# Altium footprint library Pololu.PCBLIB: 2 footprints
Each footprint in its own frame and in the unit in brackets; x right, y up, seen from the top. Pads: shape width x height; smd on the part's side, far side on the other; paste and mask are expansions set on the pad; w line width, h text height; cw(c..) or ccw(c..) is an arc to the next point about the centre after c.
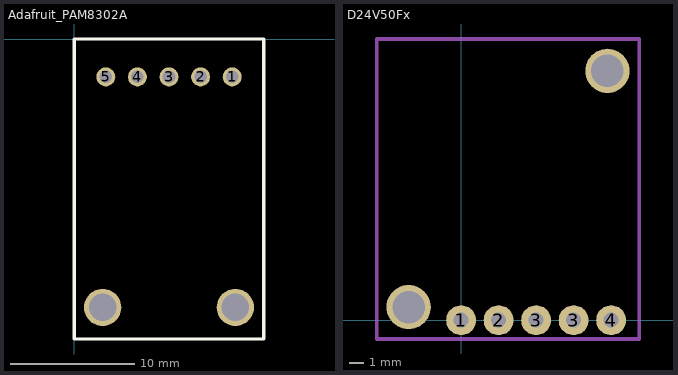
[diagram p0: the footprints below, top view; thin cyan lines are the x and y axes]

## Adafruit_PAM8302A [mil] "Adafruit Mono 2.5W Class D Audio Amplifier - PAM8302"
height 180
pads (7):
  round 60 hole 40: 1(500,-120) 2(400,-120) 3(300,-120) 4(200,-120) 5(100,-120)
  round 118 hole 86.6: ""(90,-850) ""(510,-850)
Top Overlay:
  lines w10: 0,-950 0,0 600,0 600,-950 0,-950

## D24V50Fx [mil] "D24V25Fx DC step down regulator"
height 395
pads (7):
  round 80 hole 40: 1(0,0) 2(100,0) 3(200,0) 3(300,0) 4(400,0)
  round 118 hole 86.6: ""(-140,35) ""(390,665)
Assembly Top:
  lines w10: -225,-50 475,-50 475,750 -225,750 -225,-50
3D body: height 395, standoff 114, extent -230,-50 480,750